# EAGLE library part PBS_SMD_X13 (library UNKNOWN-2024)
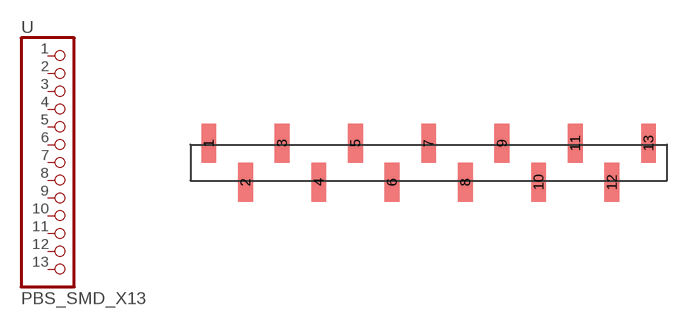
[diagram p16: symbol with the pads of PBD_SMD_X13; footprint PBD_SMD_X13]

Designator prefix -

## PBS_SMD_X13  [PBD_SMD_X13]
1  1  pas
2  2  pas
3  3  pas
4  4  pas
5  5  pas
6  6  pas
7  7  pas
8  8  pas
9  9  pas
10  10  pas
11  11  pas
12  12  pas
13  13  pas

## Footprint PBD_SMD_X13 (pad centres in mm)
smd 1.02 x 2.7: 1 -15.24,1.35; 2 -12.7,-1.35; 3 -10.16,1.35; 4 -7.62,-1.35; 5 -5.08,1.35; 6 -2.54,-1.35; 7 0,1.35; 8 2.54,-1.35; 9 5.08,1.35; 10 7.62,-1.35; 11 10.16,1.35; 12 12.7,-1.35; 13 15.24,1.35